# Altium footprint library UKU20204.PcbLib: 41 footprints (part 3 of 3)
Each footprint in its own frame and in the unit in brackets; x right, y up, seen from the top. Pads: shape width x height; smd on the part's side, far side on the other; paste and mask are expansions set on the pad; w line width, h text height; cw(c..) or ccw(c..) is an arc to the next point about the centre after c.
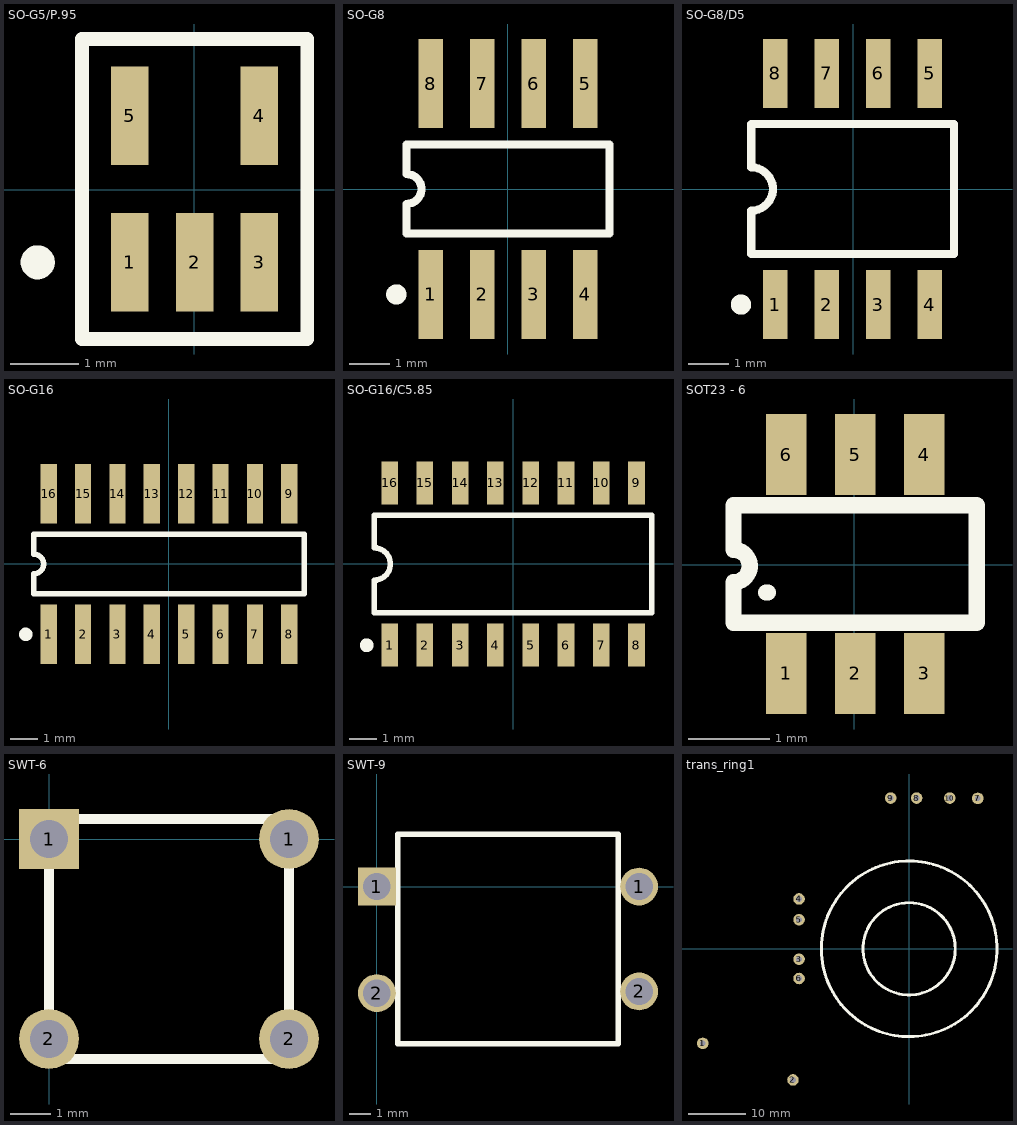
[diagram p2: the footprints below, top view; thin cyan lines are the x and y axes]

## SO-G5/P.95 [mm]
pads (5):
  rect 0.55x1.45 smd: 1(-0.942,-1.066) 2(0.008,-1.066) 3(0.958,-1.066) 4(0.958,1.084) 5(-0.942,1.084)
Top Overlay:
  circle w0.25: c-2.292,-1.066 r0.125
  lines w0.2: -1.642,-2.191 -1.642,2.209 1.658,2.209 1.658,-2.191 -1.642,-2.191

## SO-G8 [mm]
pads (8):
  rect 0.6x2.2 smd: 1(-1.904,-2.595) 2(-0.634,-2.595) 3(0.636,-2.595) 4(1.906,-2.595) 5(1.906,2.605) 6(0.636,2.605) 7(-0.634,2.605) 8(-1.904,2.605)
Top Overlay:
  circle w0.25: c-2.754,-2.595 r0.125
  lines w0.2: -2.499,-1.095 -2.499,-0.362 ccw(c-2.499,0.005) -2.499,0.371 -2.499,1.105 2.501,1.105 2.501,-1.095 -2.499,-1.095

## SO-G8/D5 [mm]
pads (8):
  rect 0.6x1.7 smd: 1(-1.916,-2.846) 2(-0.646,-2.846) 3(0.624,-2.846) 4(1.894,-2.846) 5(1.894,2.854) 6(0.624,2.854) 7(-0.646,2.854) 8(-1.916,2.854)
Top Overlay:
  circle w0.25: c-2.766,-2.846 r0.125
  lines w0.2: -2.511,-1.596 -2.511,-0.529 ccw(c-2.511,0.004) -2.511,0.538 -2.511,1.604 2.489,1.604 2.489,-1.596 -2.511,-1.596

## SO-G16 [mm]
pads (16):
  rect 0.6x2.2 smd: 1(-4.442,-2.604) 2(-3.172,-2.604) 3(-1.902,-2.604) 4(-0.632,-2.604) 5(0.638,-2.604) 6(1.908,-2.604) 7(3.178,-2.604) 8(4.448,-2.604) 9(4.448,2.596) 10(3.178,2.596) 11(1.908,2.596) 12(0.638,2.596) 13(-0.632,2.596) 14(-1.902,2.596) 15(-3.172,2.596) 16(-4.442,2.596)
Top Overlay:
  circle w0.25: c-5.292,-2.604 r0.125
  lines w0.2: -4.997,-1.104 5.003,-1.104 5.003,1.096 -4.997,1.096 -4.997,0.363 cw(c-4.997,-0.004) -4.997,-0.371 -4.997,-1.104

## SO-G16/C5.85 [mm]
pads (16):
  rect 0.6x1.55 smd: 1(-4.455,-2.927) 2(-3.185,-2.927) 3(-1.915,-2.927) 4(-0.645,-2.927) 5(0.625,-2.927) 6(1.895,-2.927) 7(3.165,-2.927) 8(4.435,-2.927) 9(4.435,2.923) 10(3.165,2.923) 11(1.895,2.923) 12(0.625,2.923) 13(-0.645,2.923) 14(-1.915,2.923) 15(-3.185,2.923) 16(-4.455,2.923)
Top Overlay:
  circle w0.25: c-5.28,-2.927 r0.125
  lines w0.2: -5.01,-1.752 4.99,-1.752 4.99,1.748 -5.01,1.748 -5.01,0.582 cw(c-5.01,-0.002) -5.01,-0.585 -5.01,-1.752

## SOT23 - 6 [mm]
pads (6):
  rect 0.5x1 smd: 1(-0.841,-1.338) 2(0.009,-1.338) 3(0.859,-1.338) 4(0.859,1.362) 5(0.009,1.362) 6(-0.841,1.362)
Top Overlay:
  lines w0.2: -1.091,-0.338 -1.066,-0.338 ; -1.491,-0.713 -1.491,-0.213 ccw(c-1.491,-0.013) -1.491,0.187 -1.491,0.737 1.509,0.737 1.509,-0.713 -1.491,-0.713

## SWT-6 [mm]
pads (4):
  rect 1.5x1.5 hole 0.95: 1(-0.012,0.002)
  round 1.5 hole 0.95: 1(5.988,0.002) 2(-0.012,-4.998) 2(5.988,-4.998)
Top Overlay:
  lines w0.254: -0.012,-5.498 -0.012,0.502 5.988,0.502 5.988,-5.498 -0.012,-5.498

## SWT-9 [mm]
pads (4):
  rect 1.8x1.8 hole 1.3: 1(-0.002,-0.001)
  round 1.8 hole 1.3: 1(12.498,-0.001) 2(-0.002,-5.081) 2(12.498,-5.001)
Top Overlay:
  lines w0.254: 0.998,-7.501 11.498,-7.501 11.498,2.499 0.998,2.499 0.998,-7.501

## trans_ring1 [mm]
pads (10):
  round 2 hole 1: 1(-35.8,-16.401) 2(-20.15,-22.751) 3(-19.1,-1.801) 4(-19.1,8.649) 5(-19.1,5.049) 6(-19.1,-5.151) 8(1.3,26.149) 9(-3.2,26.149) 10(7.05,26.149)
  round 2 hole 1 unplated: 7(11.9,26.099)
Top Overlay:
  circle w0.5: c0,-0.001 r8.001
  circle w0.5: c0,-0.001 r15.24